# Altium schematic symbol library Sheet_1_2021-12-20.SCHLIB: 1 symbol
Pins are listed as number, name and electrical type; pins without a type are passive.

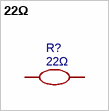
[diagram p0: symbol 22Ω]

## 22Ω
designator R?
BOM_Manufacturer: PANASONIC(松下); BOM_Manufacturer Part: ERJP06F22R0V; nameAlias: Resistance; Contributor: LCSC; BOM_Supplier: LCSC; BOM_Supplier Part: C441970; BOM_JLCPCB Part Class: Extended Part; spicePre: R; spiceSymbolName: ERJP06F22R0V
footprint R0805
pins: 1, 2